# Altium schematic symbol library Motor_Driver.SchLib: 16 symbols
Pins are listed as number, name and electrical type; pins without a type are passive.

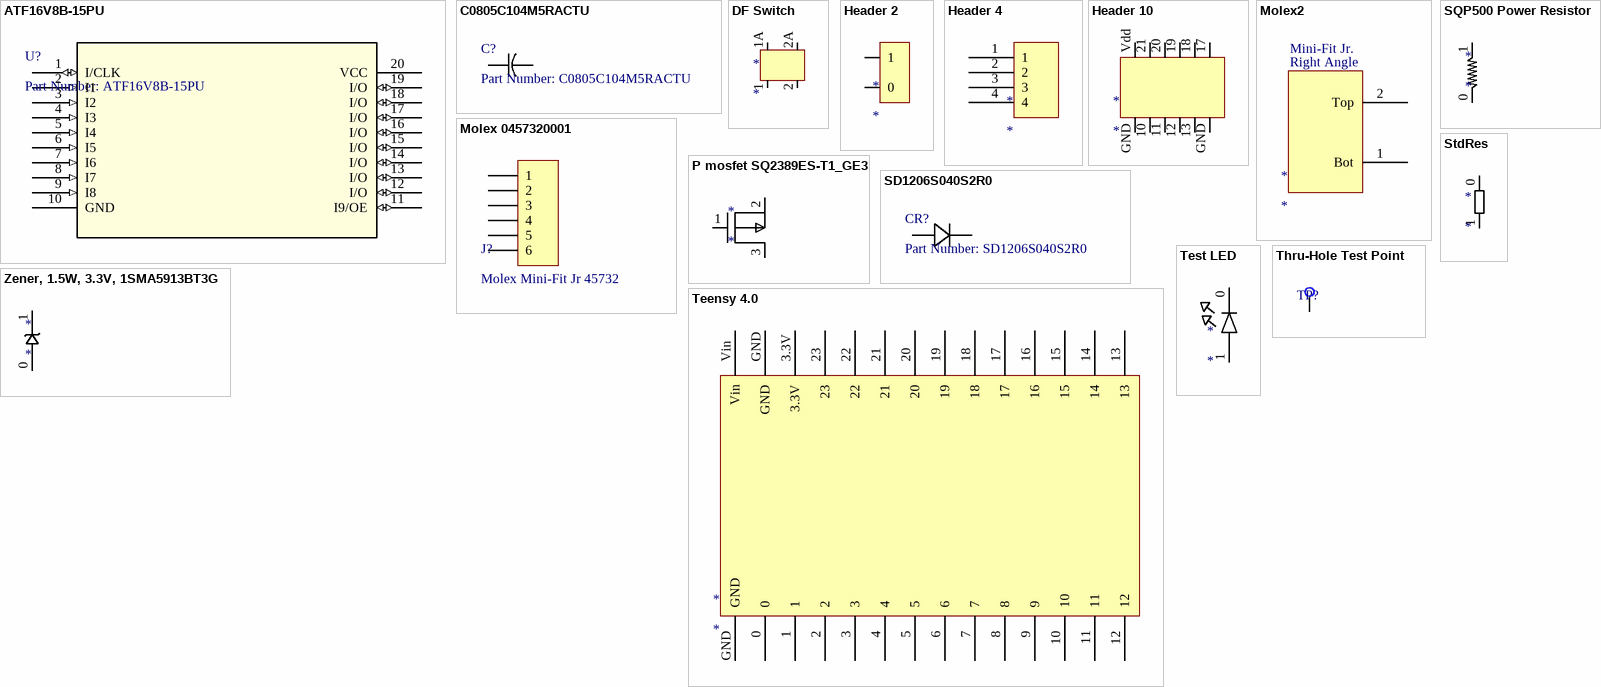
[diagram p0: symbols ATF16V8B-15PU to Zener, 1.5W, 3.3V, 1SMA5913BT3G]

## ATF16V8B-15PU
designator U?, comment Part Number: ATF16V8B-15PU
No Description Available; Vendor: Atmel; Built_By: EMA_UL_Team; Manufacturer_Part_Number: ATF16V8B-15PU; Copyright: Copyright (C) 2018 Accelerated Designs. All rights reserved; RefDes: RefDes; Type: DEV; Value: Value
footprint 20P3
pins: 1 I/CLK (io), 2 I1 (in), 3 I2 (in), 4 I3 (in), 5 I4 (in), 6 I5 (in), 7 I6 (in), 8 I7 (in), 9 I8 (in), 10 GND (power), 11 I9/OE (io), 12 I/O (io), 13 I/O (io), 14 I/O (io), 15 I/O (io), 16 I/O (io), 17 I/O (io), 18 I/O (io), 19 I/O (io), 20 VCC (power)

## C0805C104M5RACTU
designator C?, comment Part Number: C0805C104M5RACTU
No Description Available; Vendor: Kemet; Built_By: EMA_UL_Team; Type: DEV; Manufacturer_Part_Number: C0805C104M5RACTU; Copyright: Copyright (C) 2018 Accelerated Designs. All rights reserved; RefDes: RefDes; Value: Value
footprint CC0805N-M
pins: 1, 2

## DF Switch
designator *
footprint DF Switch
pins: 1, 1A 0, 2 0, 2A

## Header 2
designator *
footprint 2 Header
pins: 0, 1

## Header 4
designator *
footprint 4 Header
pins: 1, 2, 3, 4

## Header 10
designator *
footprint 10 Header
pins: 10, 11, 12, 13, 17, 18, 19, 20, 21, GND, GND, Vdd

## Molex2
designator *
footprint MOLEX MINI2
pins: 1 Bot, 2 Top
text: Mini-Fit Jr.; Right Angle

## Molex 0457320001
designator J?, comment Molex Mini-Fit Jr 45732
Molex CONN HEADER R/A 6POS 4.2MM
footprint Molex Mini-Fit Jr (Molex 0457320001)
pins: 1 (power), 2 (power), 3 (power), 4 (power), 5 (power), 6 (power)

## P mosfet SQ2389ES-T1_GE3
designator *
footprint P mosfet SQ2389ES-T1_GE3
pins: 1 GND, 2, 3

## SD1206S040S2R0
designator CR?, comment Part Number: SD1206S040S2R0
Vendor: AVX Corporation; Built_By: EMA_UL_Team; Type: DEV; Manufacturer_Part_Number: SD1206S040S2R0; Copyright: Copyright (C) 2018 Accelerated Designs. All rights reserved; RefDes: RefDes; Value: Value
footprint SD1206
pins: 1, 2

## SQP500 Power Resistor
designator *
footprint SQP500 Power Resistor
pins: 0, 1

## StdRes
designator *
footprint StdRes
pins: 0, 1

## Teensy 4.0
designator *
footprint Teensy 4.0
pins: 0, 1, 2, 3, 3.3V, 4, 5, 6, 7, 8, 9, 10, 11, 12, 13, 14, 15, 16, 17, 18, 19, 20, 21, 22, 23, GND, GND, Vin

## Test LED
designator *
footprint Test LED
pins: 0, 1

## Thru-Hole Test Point
designator TP?  (value not drawn)
footprint TESTPOINT (Testpoint)
pins: 1 TP

## Zener, 1.5W, 3.3V, 1SMA5913BT3G
designator *
footprint Zener, 1.5W, 3.3V, 1SMA5913BT3G
pins: 0, 1